# Altium schematic symbol library ultrasound_wifi.SCHLIB: 20 symbols
Pins are listed as number, name and electrical type; pins without a type are passive.

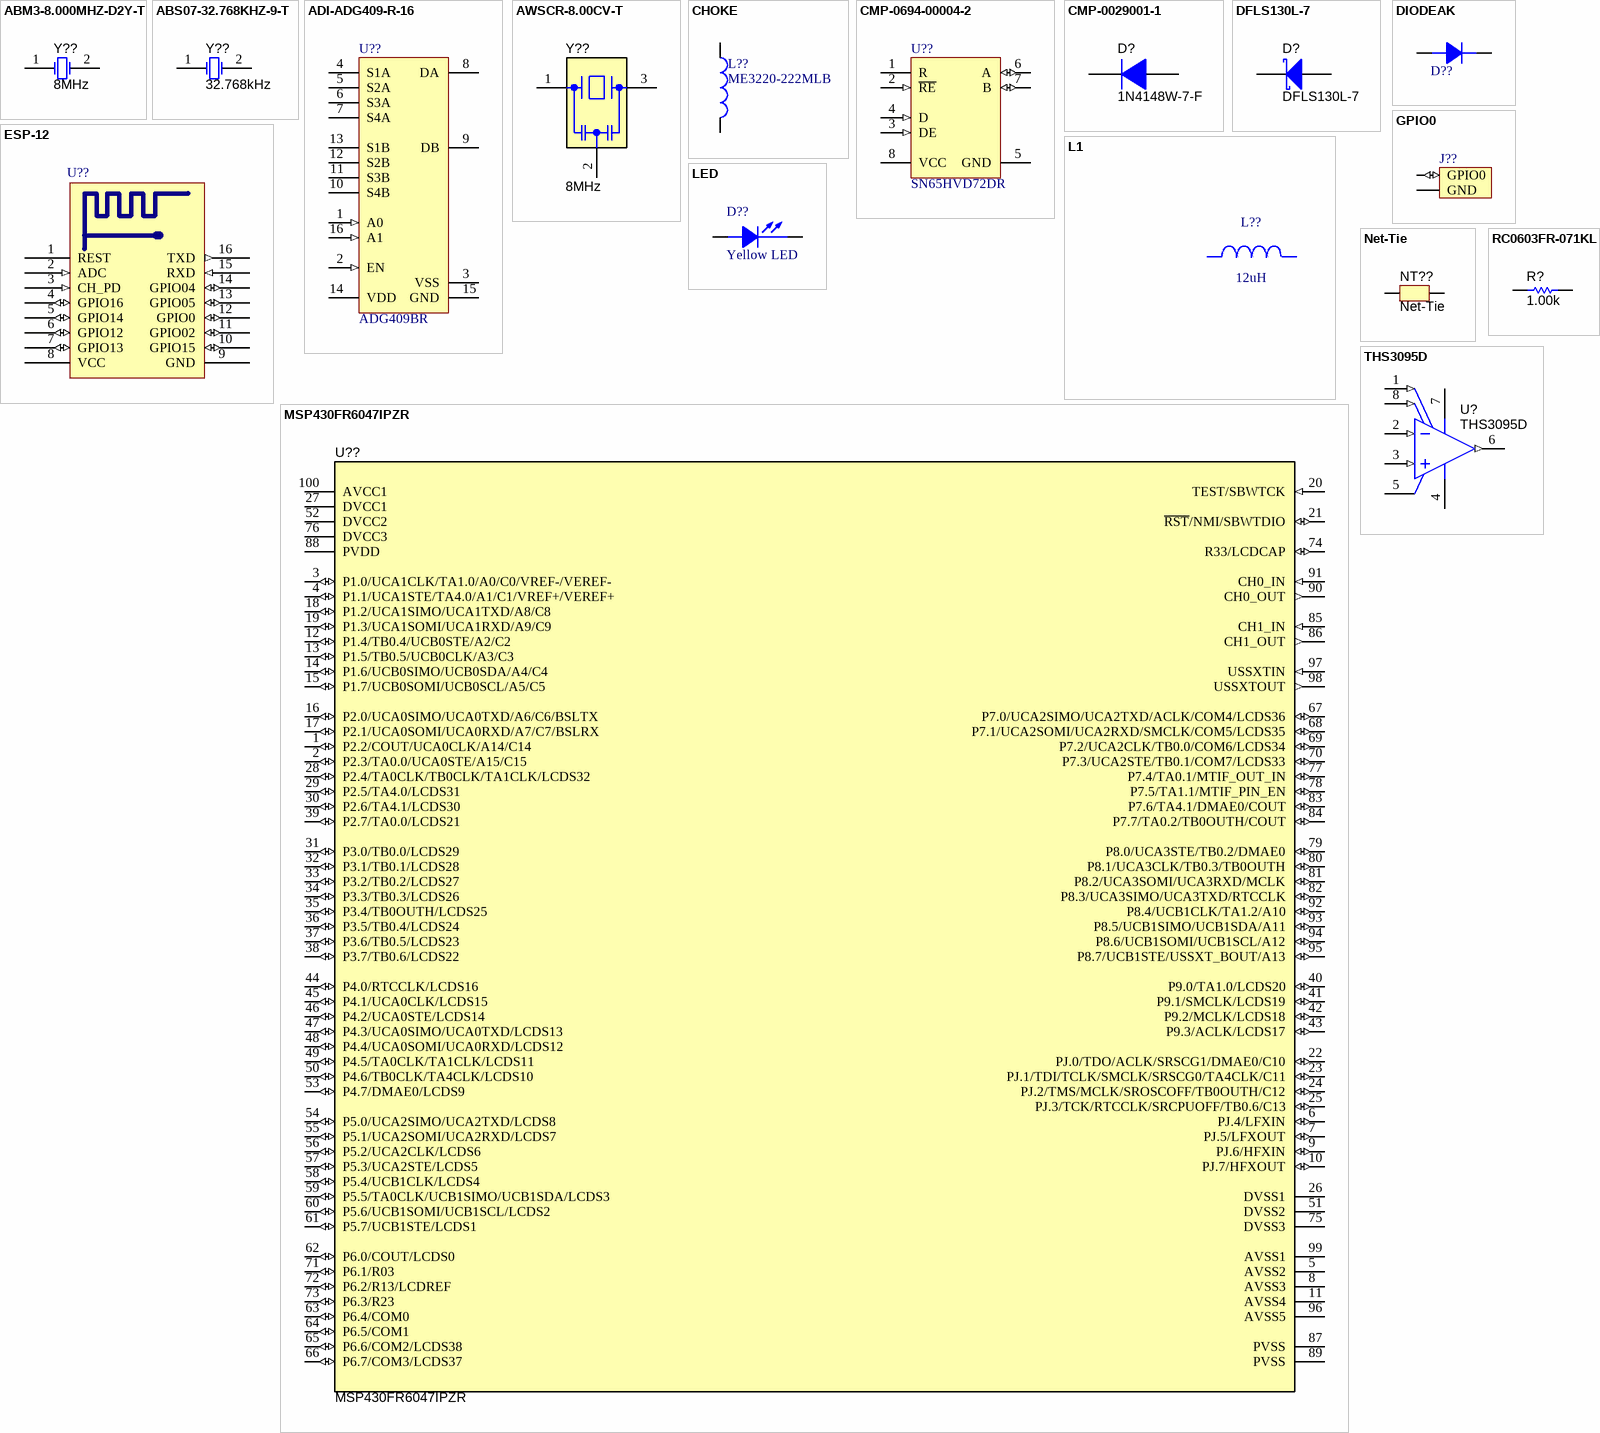
[diagram p0: symbols ABM3-8.000MHZ-D2Y-T to THS3095D]

## ABM3-8.000MHZ-D2Y-T
designator Y??  Frequency: 8MHz  (hidden comment: ABM3-8.000MHZ-D2Y-T)
Crystal, 8MHz, SMD; Manufacturer: Abracon Corporation; SymbolCreator: a0412235; U/M: EA; TaMin_C: -40; TaMax_C: 85; Frequency Stability: ±30ppm; SymbolVersion: 2008-07-09; PartNumber: ABM3-8.000MHZ-D2Y-T; CompType: Crystal; PackageReference: SMD, 2-Leads, Body 3.2x1.3x5 mm; MountType: SMT; RoHS: E; ComponentLink1Description: Datasheet Link; ComponentLink1URL: http://www.abracon.com/Resonators/abm3.pdf; Publisher: Texas Instruments; LatestRevisionDate: 2017-02-02; Supplier 1: Digi-Key; Supplier Part Number 1: 535-10630-1-ND; Supplier 2: Mouser; Supplier Part Number 2: 815-ABM3-8-D2Y-T; Supplier 3: Farnell; Supplier Part Number 3: 2101329
footprint Abracon_ABM3
pins: 1 OSC1, 2 OSC2

## ABS07-32.768KHZ-9-T
designator Y??  Frequency: 32.768kHz  (hidden comment: ABS07-32.768KHZ-9-T)
CRYSTAL, 32.768KHZ, 9PF, SMD; Manufacturer: Abracon Corporation; SymbolCreator: a0412235; U/M: EA; TaMin_C: -40; TaMax_C: 85; Frequency Stability: ±20ppm; SymbolVersion: 2008-07-09; PartNumber: ABS07-32.768KHZ-9-T; CompType: Crystal; PackageReference: 3.2x0.9x1.5mm; MountType: SMT; RoHS: Y; ComponentLink1Description: Datasheet Link; ComponentLink1URL: http://www.abracon.com/Resonators/ABS07.pdf; Publisher: Texas Instruments; LatestRevisionDate: 2016-11-29; Supplier 1: Digi-Key; Supplier Part Number 1: 535-9544-1-ND; Supplier 2: Mouser; Supplier Part Number 2: 815-ABS07-32.768K9T; Supplier 3: Farnell; Supplier Part Number 3: 2101346
footprint XTAL_ABS07
pins: 1 OSC1, 2 OSC2

## ADI-ADG409-R-16
designator U??, comment ADG409BR
LC2MOS 4-Channel High Performance Analog Multiplexer, 40 Ohm / 90 Ohm Ron, 16-pin SOIC (R-16), Tube; Manufacturer: Analog Devices; Max Analog Signal Range: Vss to Vdd; Ron (ohms): 40; t transition (s): 120n; PackageDescription: 16-Pin Standard Small Outline Package, Body 9.9 x 3.9 mm, Pitch 1.27 mm; PackageReference: R-16; ComponentLink3URL: http://www.analog.com/static/imported-files/packages/PKG_PDF/SOIC_Narrow%20(R)/R_16.pdf; ComponentLink1URL: http://www.analog.com/en/index.html; Mounting Technology: Surface Mount; Packing: Tube; PartNumber: ADG409BR; ComponentLink3Description: Package Specification; ComponentLink1Description: Manufacturer URL; PackageVersion: 060606-A, 06/2006; ComponentLink2URL: http://www.analog.com/static/imported-files/data_sheets/ADG408_409.pdf; ComponentLink2Description: Datasheet; Code_JEDEC: MS-012-AC; DatasheetVersion: Rev. C
footprint ADI-R-16_L (SOIC, 16-Leads, Body 9.9x3.9mm, Pitch 1.27mm, IPC High Density)
footprint ADI-R-16_N (SOIC, 16-Leads, Body 9.9x3.9mm, Pitch 1.27mm, IPC Medium Density)
footprint ADI-R-16_M (SOIC, 16-Leads, Body 9.9x3.9mm, Pitch 1.27mm, IPC Low Density)
pins: 1 A0 (in) "Logic Control Input.", 2 EN (in) "Active High Digital Input. When low, the device is disabled and all switches are off. When high, Ax logic inputs determine on switches.", 3 VSS (power) "Most Negative Power Supply Potential in Dual Supplies. In single-supply applications, it can be connected to ground.", 4 S1A "Source Terminal 1A. Can be an input or an output.", 5 S2A "Source Terminal 2A. Can be an input or an output.", 6 S3A "Source Terminal 3A. Can be an input or an output.", 7 S4A "Source Terminal 4A. Can be an input or an output.", 8 DA "Drain Terminal A. Can be an input or an output.", 9 DB "Drain Terminal B. Can be an input or an output.", 10 S4B "Source Terminal 4B. Can be an input or an output.", 11 S3B "Source Terminal 3B. Can be an input or an output.", 12 S2B "Source Terminal 2B. Can be an input or an output.", 13 S1B "Source Terminal 1B. Can be an input or an output.", 14 VDD (power) "Most Positive Power Supply Potential.", 15 GND (power) "Ground (0 V) Reference.", 16 A1 (in) "Logic Control Input."

## AWSCR-8.00CV-T
designator Y??  Frequency: 8MHz  (hidden comment: AWSCR-8.00CV-T)
Ceramic Resonator, 8MHz, 22pF, SMD; Manufacturer: Abracon Corporation; SymbolCreator: a0799721; SizeAreaWB_mm2: 19.27; SizeArea_mm2: 11.47; SizeX_mm: 3.7; SizeY_mm: 3.1; SizeZ_mm: 1.2; U/M: EA; TaMin_C: -25; TaMax_C: 85; SymbolVersion: 2016-2-15; PartNumber: AWSCR-8.00CV-T; CompType: Resonator; PackageReference: 3.7x3.1mm; MountType: SMT; RoHS: Y; ComponentLink1Description: Datasheet Link; ComponentLink1URL: http://www.abracon.com/Resonators/AWSCR_CV.pdf; Publisher: Texas Instruments; LatestRevisionDate: 2017-02-02; Supplier 1: Digi-Key; Supplier Part Number 1: 535-10004-1-ND; Supplier 2: Mouser; Supplier Part Number 2: 815-AWSCR-8.00CV-T
footprint Abracon_AWSCR-CV
pins: 1 In, 2 GND, 3 Out

## CHOKE
designator L??, comment Manufacturer Part Number: ME3220-222MLB  (hidden comment: ME3220 2.2uH)
Power Inductor ME3220-222MLB; Manufacturer: Coilcraft; PartCode: 2; ID: 11; Class Code: IND; Resistance: 104mOhm; Rated Current: 1.5; GR: BUCK; Part Number: ME3220-222MLB; Class: Power Inductor; Case-EIA: ME3220; ComponentLink1Description: Datasheet
footprint ME3220
pins: 1, 2

## CMP-0694-00004-2
designator U??, comment SN65HVD72DR
3.3 V Supply RS-485 with IEC ESD Protection, 0.25 Mbps, -40 to 125 degC, 8-Pin SOIC, RoHS, Tape and Reel; Manufacturer: Texas Instruments; Manufacturer Part Number: ST485CDR; Manufacturer: STMicroelectronics; VI: -7 to 12 V; No. of RX: 1; ICC (Max) (mA): 0.95; ESD: 15 kV; VCC: 3 to 3.6 V; Signaling Rate (Max) (Mbps): 0.25; Packing: Tape and Reel; PackageReference: D0008A; ComponentLink3URL: http://www.ti.com/lit/ds/sllse11c/sllse11c.pdf; RoHS: TRUE; Operating Temperature Range: -40 to 125 degC; ComponentLink1Description: Manufacturer URL; Mounting Technology: Surface Mount; ComponentLink1URL: http://www.ti.com/; ComponentLink3Description: Package Specification; No. of TX: 1; PackageDescription: 8-Pin Plastic Small Outline, Body 4.9 x 3.9 mm, Pitch 1.27 mm; ComponentLink2Description: Datasheet; DatasheetVersion: SLLSE11C; ComponentLink2URL: http://www.ti.com/lit/ds/sllse11c/sllse11c.pdf; PackageVersion: 4040047-3/M; PartNumber: SN65HVD72DR
footprint D0008A_M (SOIC, 8-Leads, Body 5x4mm, Pitch 1.27mm, IPC Low Density)
footprint D0008A_L (SOIC, 8-Leads, Body 5x4mm, Pitch 1.27mm, IPC High Density)
footprint D0008A_N (SOIC, 8-Leads, Body 5x4mm, Pitch 1.27mm, IPC Medium Density)
pins: 1 R (hiz), 2 ~{RE} (in), 3 DE (in), 4 D (in), 5 GND (power), 6 A (io), 7 B (io), 8 VCC (power)

## CMP-0029001-1
designator D?, comment 1N4148W-7-F
Diode, Ultrafast, 100 V, 0.15 A, SOD-123; Manufacturer: Diodes Inc.; Io_A: 1.5dA; Green_Lifecycle: Active; SizeAreaWB_mm2: 13.095; Vr_V: 100V; Green_REACh: Passed; Value1: 0.15A; TJmax_C: 150°C; U/M: EA; Value: 100V; SizeZ_mm: 1.35; SizeX_mm: 3.85; SizeY_mm: 1.7; Vf_V: 1.25V; SizeArea_mm2: 6.545; AEC Category: Q101; ComponentLink1URL: http://www.diodes.com/datasheets/ds30086.pdf; Supplier Part Number 2: 621-1N4148W-F; Publisher: Texas Instruments; Supplier 2: Mouser; Supplier Part Number 3: 1776392; Supplier 3: Farnell; Published: 2008-06-26; RoHS: Y; MountType: SMT; Green_EU RoHS-2: Passed; Supplier 1: Digi-Key; Green_EU RoHS: Passed; PackageReference: SOD-123; Value2: 1.25V; CompType: Diode; Type: Ultrafast; LatestRevisionDate: 2017-05-08; PartNumber: 1N4148W-7-F; AEC Qualified: ?; ComponentLink1Description: Datasheet link; Supplier Part Number 1: 1N4148W-FDICT-ND
footprint SOD-123 (On Semi recommended land pattern)
pins: 1 K, 2 A

## DFLS130L-7
designator D?
Diode, Schottky, 30 V, 1 A, PowerDI123; Manufacturer: Diodes Inc.; U/M: EA; Vf_V: 0.31; Value: 30V; Value1: 1A; Value2: 0.31V; Io_A: 1; Vr_V: 30; TJmax_C: 125; SizeAreaWB_mm2: 13.066; SizeArea_mm2: 6.586; SizeX_mm: 3.7; SizeY_mm: 1.78; SizeZ_mm: 0.98; AEC Category: Q101; AEC Qualified: N; Green_Lifecycle: Not Set; Green_REACh: Incomplete; CompType: Diode; SymbolVersion: 2008-12-08; PartNumber: DFLS130L-7; PackageReference: PowerDI123; MountType: SMT; Type: Schottky; RoHS: Y; Published: 2008-06-26; Publisher: Texas Instruments; LatestRevisionDate: 2017-05-30; ComponentLink1Description: Datasheet link; ComponentLink1URL: http://www.diodes.com/_files/datasheets/ds30492.pdf; Supplier 1: Digi-Key; Supplier Part Number 1: DFLS130LDICT-ND; Supplier 2: Newark; Supplier Part Number 2: 12T1975; Supplier 3: Mouser; Supplier Part Number 3: 621-DFLS130L; Green_EU RoHS: Incomplete; Green_EU RoHS-2: Incomplete
signal-integrity model Diode
footprint PowerDI123
pins: 1 K, 2 A

## DIODEAK
designator D??, comment Diode 3.0A 3A 50V SMC  (value not drawn)
Part Number: S3A; Manufacturer: Fairchild; PartCode: 3; Type: standard; Class: Si-Diode; STD Price: 0.114; Class Code: Diode; Case-EIA: SMC; Manufacturer Part Number: S3A
footprint DIODE-SMC
pins: A, C K

## ESP-12
designator U??  (value not drawn)
pins: 1 REST, 2 ADC (in), 3 CH_PD (in), 4 GPIO16 (io), 5 GPIO14 (io), 6 GPIO12 (io), 7 GPIO13 (io), 8 VCC (power), 9 GND (power), 10 GPIO15 (io), 11 GPIO02 (io), 12 GPIO0 (io), 13 GPIO05 (io), 14 GPIO04 (io), 15 RXD (in), 16 TXD (out)

## GPIO0
designator J??  (value not drawn)
pins: 1 GPIO0 (io), 2 GND (power)

## L1
designator L??, comment value 12uH  (hidden comment: NPI43C120MTRF)
Manufacturer Name: NIC Components; PackageReference: NPI43C120MTRF; Manufacturer Part Number: NPI43C120MTRF
pins: 1, 2

## LED
designator D??, comment Yellow LED
LED ULTRA-BRIGHT YELLOW SMT 0603; Manufacturer Part Number: LTST-C190KSKT; Manufacturer: Lite ON; PartCode: 1; Type: standard; Class: LED YEL; STD Price: 0.057; Case-EIA: 0603; GR: MCU; Class Code: LED
footprint C_0603D
pins: 1 A, 2 C

## MSP430FR6047IPZR
designator U??
Mixed-Signal Microcontroller, PZ0100A (LQFP-100); Manufacturer: Texas Instruments; SymbolCreator: Altium; SizeArea_mm2: 256; SizeAreaWB_mm2: 324; SizeX_mm: 16; SizeZ_mm: 1.6; CompType: IC; U/M: EA; SymbolVersion: 2016-11-29; PartNumber: MSP430FR6047IPZR; Alternate PartNumber: MSP430FR6047IPZ; PackageReference: PZ0100A; PackageDescription: LQFP-100; MountType: SMT; SizeY_mm: 16; ComponentLink1Description: Datasheet Link; ComponentLink1URL: https://sps06.itg.ti.com/sites/KMS/crossdivteams/altium/docs/ComponentDatasheets/SLASEB7_MSP430FR6047_Int.pdf; Publisher: Texas Instruments; LatestRevisionDate: 2016-11-30; Alternate Manufacturer: Texas Instruments
footprint PZ0100A_N
footprint PZ0100A_M
footprint PZ0100A_L
pins: 1 P2.2/COUT/UCA0CLK/A14/C14 (io), 2 P2.3/TA0.0/UCA0STE/A15/C15 (io), 3 P1.0/UCA1CLK/TA1.0/A0/C0/VREF-/VEREF- (io), 4 P1.1/UCA1STE/TA4.0/A1/C1/VREF+/VEREF+ (io), 5 AVSS2 (power), 6 PJ.4/LFXIN (io), 7 PJ.5/LFXOUT (io), 8 AVSS3 (power), 9 PJ.6/HFXIN (io), 10 PJ.7/HFXOUT (io), 11 AVSS4 (power), 12 P1.4/TB0.4/UCB0STE/A2/C2 (io), 13 P1.5/TB0.5/UCB0CLK/A3/C3 (io), 14 P1.6/UCB0SIMO/UCB0SDA/A4/C4 (io), 15 P1.7/UCB0SOMI/UCB0SCL/A5/C5 (io), 16 P2.0/UCA0SIMO/UCA0TXD/A6/C6/BSLTX (io), 17 P2.1/UCA0SOMI/UCA0RXD/A7/C7/BSLRX (io), 18 P1.2/UCA1SIMO/UCA1TXD/A8/C8 (io), 19 P1.3/UCA1SOMI/UCA1RXD/A9/C9 (io), 20 TEST/SBWTCK (in), 21 ~{RST}/NMI/SBWTDIO (io), 22 PJ.0/TDO/ACLK/SRSCG1/DMAE0/C10 (io), 23 PJ.1/TDI/TCLK/SMCLK/SRSCG0/TA4CLK/C11 (io), 24 PJ.2/TMS/MCLK/SROSCOFF/TB0OUTH/C12 (io), 25 PJ.3/TCK/RTCCLK/SRCPUOFF/TB0.6/C13 (io), 26 DVSS1 (power), 27 DVCC1 (power), 28 P2.4/TA0CLK/TB0CLK/TA1CLK/LCDS32 (io), 29 P2.5/TA4.0/LCDS31 (io), 30 P2.6/TA4.1/LCDS30 (io), 31 P3.0/TB0.0/LCDS29 (io), 32 P3.1/TB0.1/LCDS28 (io), 33 P3.2/TB0.2/LCDS27 (io), 34 P3.3/TB0.3/LCDS26 (io), 35 P3.4/TB0OUTH/LCDS25 (io), 36 P3.5/TB0.4/LCDS24 (io), 37 P3.6/TB0.5/LCDS23 (io), 38 P3.7/TB0.6/LCDS22 (io), 39 P2.7/TA0.0/LCDS21 (io), 40 P9.0/TA1.0/LCDS20 (io), 41 P9.1/SMCLK/LCDS19 (io), 42 P9.2/MCLK/LCDS18 (io), 43 P9.3/ACLK/LCDS17 (io), 44 P4.0/RTCCLK/LCDS16 (io), 45 P4.1/UCA0CLK/LCDS15 (io), 46 P4.2/UCA0STE/LCDS14 (io), 47 P4.3/UCA0SIMO/UCA0TXD/LCDS13 (io), 48 P4.4/UCA0SOMI/UCA0RXD/LCDS12 (io), 49 P4.5/TA0CLK/TA1CLK/LCDS11 (io), 50 P4.6/TB0CLK/TA4CLK/LCDS10 (io), 51 DVSS2 (power), 52 DVCC2 (power), 53 P4.7/DMAE0/LCDS9 (io), 54 P5.0/UCA2SIMO/UCA2TXD/LCDS8 (io), 55 P5.1/UCA2SOMI/UCA2RXD/LCDS7 (io), 56 P5.2/UCA2CLK/LCDS6 (io), 57 P5.3/UCA2STE/LCDS5 (io), 58 P5.4/UCB1CLK/LCDS4 (io), 59 P5.5/TA0CLK/UCB1SIMO/UCB1SDA/LCDS3 (io), 60 P5.6/UCB1SOMI/UCB1SCL/LCDS2 (io), 61 P5.7/UCB1STE/LCDS1 (io), 62 P6.0/COUT/LCDS0 (io), 63 P6.4/COM0 (io), 64 P6.5/COM1 (io), 65 P6.6/COM2/LCDS38 (io), 66 P6.7/COM3/LCDS37 (io), 67 P7.0/UCA2SIMO/UCA2TXD/ACLK/COM4/LCDS36 (io), 68 P7.1/UCA2SOMI/UCA2RXD/SMCLK/COM5/LCDS35 (io), 69 P7.2/UCA2CLK/TB0.0/COM6/LCDS34 (io), 70 P7.3/UCA2STE/TB0.1/COM7/LCDS33 (io), 71 P6.1/R03 (io), 72 P6.2/R13/LCDREF (io), 73 P6.3/R23 (io), 74 R33/LCDCAP (io), 75 DVSS3 (power), 76 DVCC3 (power), 77 P7.4/TA0.1/MTIF_OUT_IN (io), 78 P7.5/TA1.1/MTIF_PIN_EN (io), 79 P8.0/UCA3STE/TB0.2/DMAE0 (io), 80 P8.1/UCA3CLK/TB0.3/TB0OUTH (io), 81 P8.2/UCA3SOMI/UCA3RXD/MCLK (io), 82 P8.3/UCA3SIMO/UCA3TXD/RTCCLK (io), 83 P7.6/TA4.1/DMAE0/COUT (io), 84 P7.7/TA0.2/TB0OUTH/COUT (io), 85 CH1_IN (in), 86 CH1_OUT (out), 87 PVSS (power), 88 PVDD (power), 89 PVSS (power), 90 CH0_OUT (out), 91 CH0_IN (in), 92 P8.4/UCB1CLK/TA1.2/A10 (io), 93 P8.5/UCB1SIMO/UCB1SDA/A11 (io), 94 P8.6/UCB1SOMI/UCB1SCL/A12 (io), 95 P8.7/UCB1STE/USSXT_BOUT/A13 (io), 96 AVSS5 (power), 97 USSXTIN (in), 98 USSXTOUT (out), 99 AVSS1 (power), 100 AVCC1 (power)

## Net-Tie
designator NT??  (net tie, no BOM)
Single point connection between nets.; SymbolCreator: codlsc; SymbolVersion: 2009-07-01; MountType: SMT; PackageReference: N/A; Publisher: Texas Instruments; LatestRevisionDate: 2015-10-18; LatestRevisionNote: Added Alternate PartNumber and Alternate Manufacturer parameters to appropriate components.
footprint Net-Tie_10mil (10mil net tie, no solder mask opening, no solder paste)
footprint NetTie_1206 (1206 pads tied by 10mil copper trace which can be cut.  Part can be placed on pads.)
footprint Net-Tie_0805_HV
footprint NetTie_1206_NoOverlay (1206 pads tied by 10mil copper trace which can be cut.  Part can be placed on pads.)
footprint Net-Tie_0805_HV_NoOverlay (0805_HV pads tied by 10mil copper trace which can be cut.  An 0805 part can be placed on pads.)
footprint Net-Tie_10milWide_30milLong
footprint Net-Tie_20milWide_60milLong
footprint NetTie_0603
footprint NetTie_0402
footprint Net-Tie_50milWide_30milLong
pins: 1, 2

## RC0603FR-071KL
designator R?  ValueDisplayed: 1.00k  (hidden comment: RC0603FR-071KL)
RES, 1.00 k, 1%, 0.1 W, 0603; Manufacturer: Yageo America; CompType: Resistor; Value: 1.00k; Res_ohm: 1000; Value_Code: 1k00; Tolerance_%: 1; Power_W: 0.1; Value2: 0.1W; VDC_V: 150; TempCo: 200 ppm/C; SizeArea_mm2: 1.28; SizeX_mm: 1.6; SizeY_mm: 0.8; EIA_Code: E96; U/M: EA; AEC Category: Q200; Green_Lifecycle: Active; Green_REACh: Passed; SymbolVersion: 2009-05-29; PartNumber: RC0603FR-071KL; PackageReference: 0603; RoHS: Y; Value1: 1%; MountType: SMT; Technology: Thick Film; SizeZ_mm: 1; Published: 2008-06-26; Publisher: Texas Instruments; LatestRevisionDate: 2017-05-31; ComponentLink1Description: Datasheet link; ComponentLink1URL: http://www.yageo.com/pdf/Pu-RC0603_51_PbFree_L_2.pdf; Supplier 1: Digi-Key; Supplier Part Number 1: 311-1.00KHRCT-ND; Supplier 2: Mouser; Supplier Part Number 2: 603-RC0603FR-071KL; Supplier 3: Farnell; Supplier Part Number 3: 9238484; AEC Qualified: ?; Green_EU RoHS: Passed with Exemption; Green_EU RoHS-2: Passed
signal-integrity model Resistor
simulation model Resistor
footprint 0603
footprint 0603M
footprint 0603L
footprint 0603_HV
footprint 0603S
pins: 1, 2

## THS3095D
designator U?
Single-High-Voltage, Low Distortion, Current-Feedback Operational Amplifier with Power-Down, 10 to 30 V, -40 to 85 degC, 8-pin SOIC (D8), Green (RoHS & no Sb/Br); Alternate Manufacturer: Texas Instruments; Alternate PartNumber: Equivalent; 2nd Harmonic(dBc): 66; 3rd Harmonic(dBc): 74; @ MHz: 10; Acl, min stable gain(V/V): 1; BW @ Acl(MHz): 210; Diff Gain(%): 0.013; Diff Phase(deg): 0.02; Iib(Max)(nA): 20000; Io(Typ)(mA): 250; Iq per channel(Max)(mA): 11; Settling Time (0.1%)(Typ)(ns): 42; Slew Rate(Typ)(V/us): 7300; Sub Family: High Output Current Amplifier (>=50mA), High Speed Amplifier (>=50MHz), High Supply Voltage Amplifier (>=30V); THD (Fc is 1 MHz)(Typ)(dB): -75; Vio(Max)(mV): 4; Vn at Flatband(Typ)(nV/rtHz): 2; Vs(Max)(V): 30; DatasheetVersion: SLOS423G; PackageVersion: 4040047-3/M, 06/2011; PackageReference: D0008A; PackageDescription: 8-Pin Plastic Small Outline, Body 4.9 x 3.9 mm, Pitch 1.27 mm; Supplier 1: Digi-Key; Supplier Part Number 1: 296-16672-5-ND; Supplier 2: Newark; Supplier Part Number 2: 90H4521; Supplier 3: Mouser; Supplier Part Number 3: 595-THS3095D; Eco-Plan: Green (RoHS & no Sb/Br); Number of Channels: 1; Vs(Min)(V): 10; MountType: SMT; Code_JEDEC: MS-012; ComponentLink1Description: Manufacturer URL; ComponentLink1URL: http://www.ti.com/; ComponentLink2Description: Datasheet; ComponentLink2URL: http://www.ti.com/general/docs/lit/getliterature.tsp?genericPartNumber=THS3095&fileType=pdf; ComponentLink3Description: Package Specification; ComponentLink3URL: http://www.ti.com/litv/pdf/msoi002j; Manufacturer: Texas Instruments; PartNumber: THS3095D
footprint D0008A_N (SOIC, 8-Leads, Body 4.9x3.9mm, Pitch 1.27mm, IPC Medium Density)
footprint D0008A_L (SOIC, 8-Leads, Body 4.9x3.9mm, Pitch 1.27mm, IPC High Density)
footprint D0008A_M (SOIC, 8-Leads, Body 4.9x3.9mm, Pitch 1.27mm, IPC Low Density)
pins: 1 REF (in), 2 VIN- (in), 3 VIN+ (in), 4 VS- (power), 5 NC, 6 VOUT (out), 7 VS+ (power), 8 ~{PD} (in)

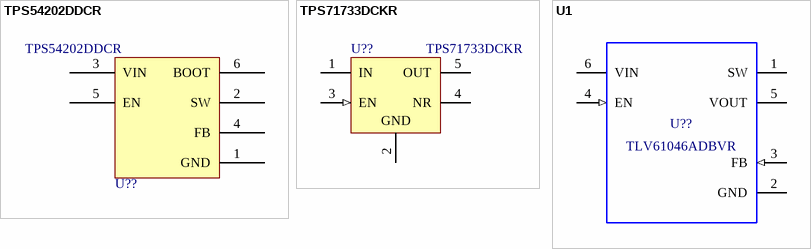
[diagram p1: symbols TPS54202DDCR to U1]

## TPS54202DDCR
designator U??
IC OTHER TPS54202DDCR; Manufacturer: Texas Instruments; PartCode: 1; Case-EIA: SOT23; GR: BUCK; Type: standard; Class: IC OTHER; Class Code: IC; ClassName: POWERIC; Manufacturer Part Number: TPS54202DDCR
footprint SOT23-6_TPS54202
pins: 1 GND, 2 SW, 3 VIN, 4 FB, 5 EN, 6 BOOT

## TPS71733DCKR
designator U??
Single Output High PSRR LDO, 150 mA, Fixed 3.3 V Output, 2.5 to 6.5 V Input, with Low IQ, 5-pin SC70 (DCK), -40 to 85 degC, Green (RoHS & no Sb/Br); Manufacturer: Texas Instruments; Accuracy(%): 3; Fixed Output Options(V): 3.3; Iout(Max)(A): 0.15; Iq(Typ)(mA): 0.05; SubFamily: Single Channel LDO; Vdo(Typ)(mV): 170; Vin(Max)(V): 6.5; Vin(Min)(V): 2.5; Case-EIA: MO-203; DatasheetVersion: SBVS068G; PackageVersion: 4093553-3/G; PackageReference: DCK5; PackageDescription: 5-Pin Plastic Small-Outline, Body 2 x 1.25 mm, Pitch 0.65 mm; Supplier 1: Digi-Key; Supplier Part Number 1: 296-19675-2-ND; Supplier 2: Digi-Key; Supplier Part Number 2: 296-19675-1-ND; Supplier 3: Digi-Key; Supplier Part Number 3: 296-19675-6-ND; Supplier 4: Farnell; Supplier Part Number 4: 2120472; Supplier 5: Newark; Supplier Part Number 5: 94T5104; Supplier 6: Newark; Supplier Part Number 6: 85K1732; Supplier 7: Mouser; Supplier Part Number 7: 595-TPS71733DCKR; Eco-Plan: Green (RoHS & no Sb/Br); Vout Adj(Max)(V): 3.3; Vout Adj(Min)(V): 3.3; Mounting Technology: Surface Mount; Code_JEDEC: MO-203; PartNumber: TPS71733DCKR; ComponentLink1Description: Manufacturer URL; ComponentLink1URL: http://www.ti.com/; ComponentLink2Description: Datasheet; ComponentLink2URL: http://www.ti.com/general/docs/lit/getliterature.tsp?genericPartNumber=TPS71733&fileType=pdf; ComponentLink3Description: Package Specification; ComponentLink3URL: http://www.ti.com/litv/pdf/mpds025f; Manufacturer Part Number: TPS71733DCKR
footprint TI-DCK5_V (SOT23, 5-Leads, Body 2x1.25mm, Pitch 0.65mm)
footprint SOT23-5
pins: 1 IN (power) "Input supply.", 2 GND (power) "Ground.", 3 EN (in) "Driving the enable pin (EN) high turns on the regulator .Driving this pin low puts the regulator into shutdown mode.EN can be connected to IN if not used.", 4 NR "Fixed voltage versions only; connecting an external capacitor to this pin bypasses noise generated by the internal bandgap. This capacitor allows output noise to be reduced to very low levels.", 5 OUT (power) "Output for the regulator. A small capacitor (total typical capacitance >= 2.0uF ceramic) is needed from this pin to ground to assure stability."

## U1
designator U??, comment TLV61046ADBVR
Manufacturer Name: Texas Instruments; Manufacturer Part Number: TLV61046ADBVR; Value: N/A; PackageReference: TLV61046ADBVR
pins: 1 SW (power), 2 GND (power), 3 FB (in), 4 EN (in), 5 VOUT (power), 6 VIN (power)